# EAGLE library part CAT28C256GI-15 (library Catalyst_Semiconductor_By_element14_Batch_1)
256 kb Parallel EEPROM
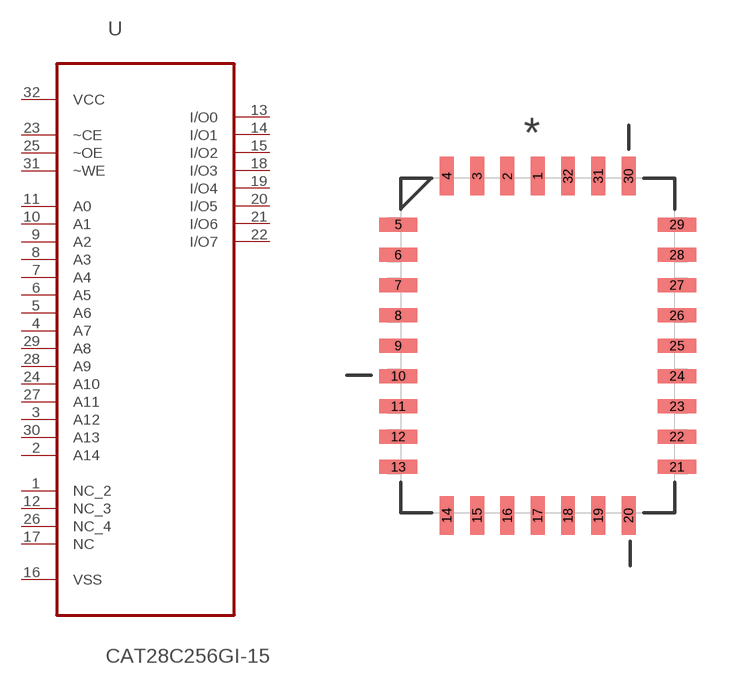
[diagram p24: symbol with the pads of PLCC127P1244X1498X280-32N; footprint PLCC127P1244X1498X280-32N]

Designator prefix U

## CAT28C256GI-15 (MPN: CAT28C256GI-15; OC_FARNELL: 1718300; OC_NEWARK: 06R0681; PACKAGE: PLCC-32; SUPPLIER: Catalyst Semiconductor)  [PLCC127P1244X1498X280-32N]
1  NC_2  nc
2  A14  in
3  A12  in
4  A7  in
5  A6  in
6  A5  in
7  A4  in
8  A3  in
9  A2  in
10  A1  in
11  A0  in
12  NC_3  nc
13  I/O0
14  I/O1
15  I/O2
16  VSS  pwr
17  NC  nc
18  I/O3
19  I/O4
20  I/O5
21  I/O6
22  I/O7
23  ~CE  in
24  A10  in
25  ~OE  in
26  NC_4  nc
27  A11  in
28  A9  in
29  A8  in
30  A13  in
31  ~WE  in
32  VCC  pwr

## Footprint PLCC127P1244X1498X280-32N (pad centres in mm)
smd 0.584 x 1.6: 1 0,7.112; 2 -1.27,7.112; 3 -2.54,7.112; 4 -3.81,7.112; 14 -3.81,-7.112; 15 -2.54,-7.112; 16 -1.27,-7.112; 17 0,-7.112; 18 1.27,-7.112; 19 2.54,-7.112; 20 3.81,-7.112; 30 3.81,7.112; 31 2.54,7.112; 32 1.27,7.112
smd 1.6 x 0.584: 5 -5.842,5.08; 6 -5.842,3.81; 7 -5.842,2.54; 8 -5.842,1.27; 9 -5.842,0; 10 -5.842,-1.27; 11 -5.842,-2.54; 12 -5.842,-3.81; 13 -5.842,-5.08; 21 5.842,-5.08; 22 5.842,-3.81; 23 5.842,-2.54; 24 5.842,-1.27; 25 5.842,0; 26 5.842,1.27; 27 5.842,2.54; 28 5.842,3.81; 29 5.842,5.08